# Altium integrated library TI Power Management LDO Controller.IntLib: 89 symbols (part 2 of 3)
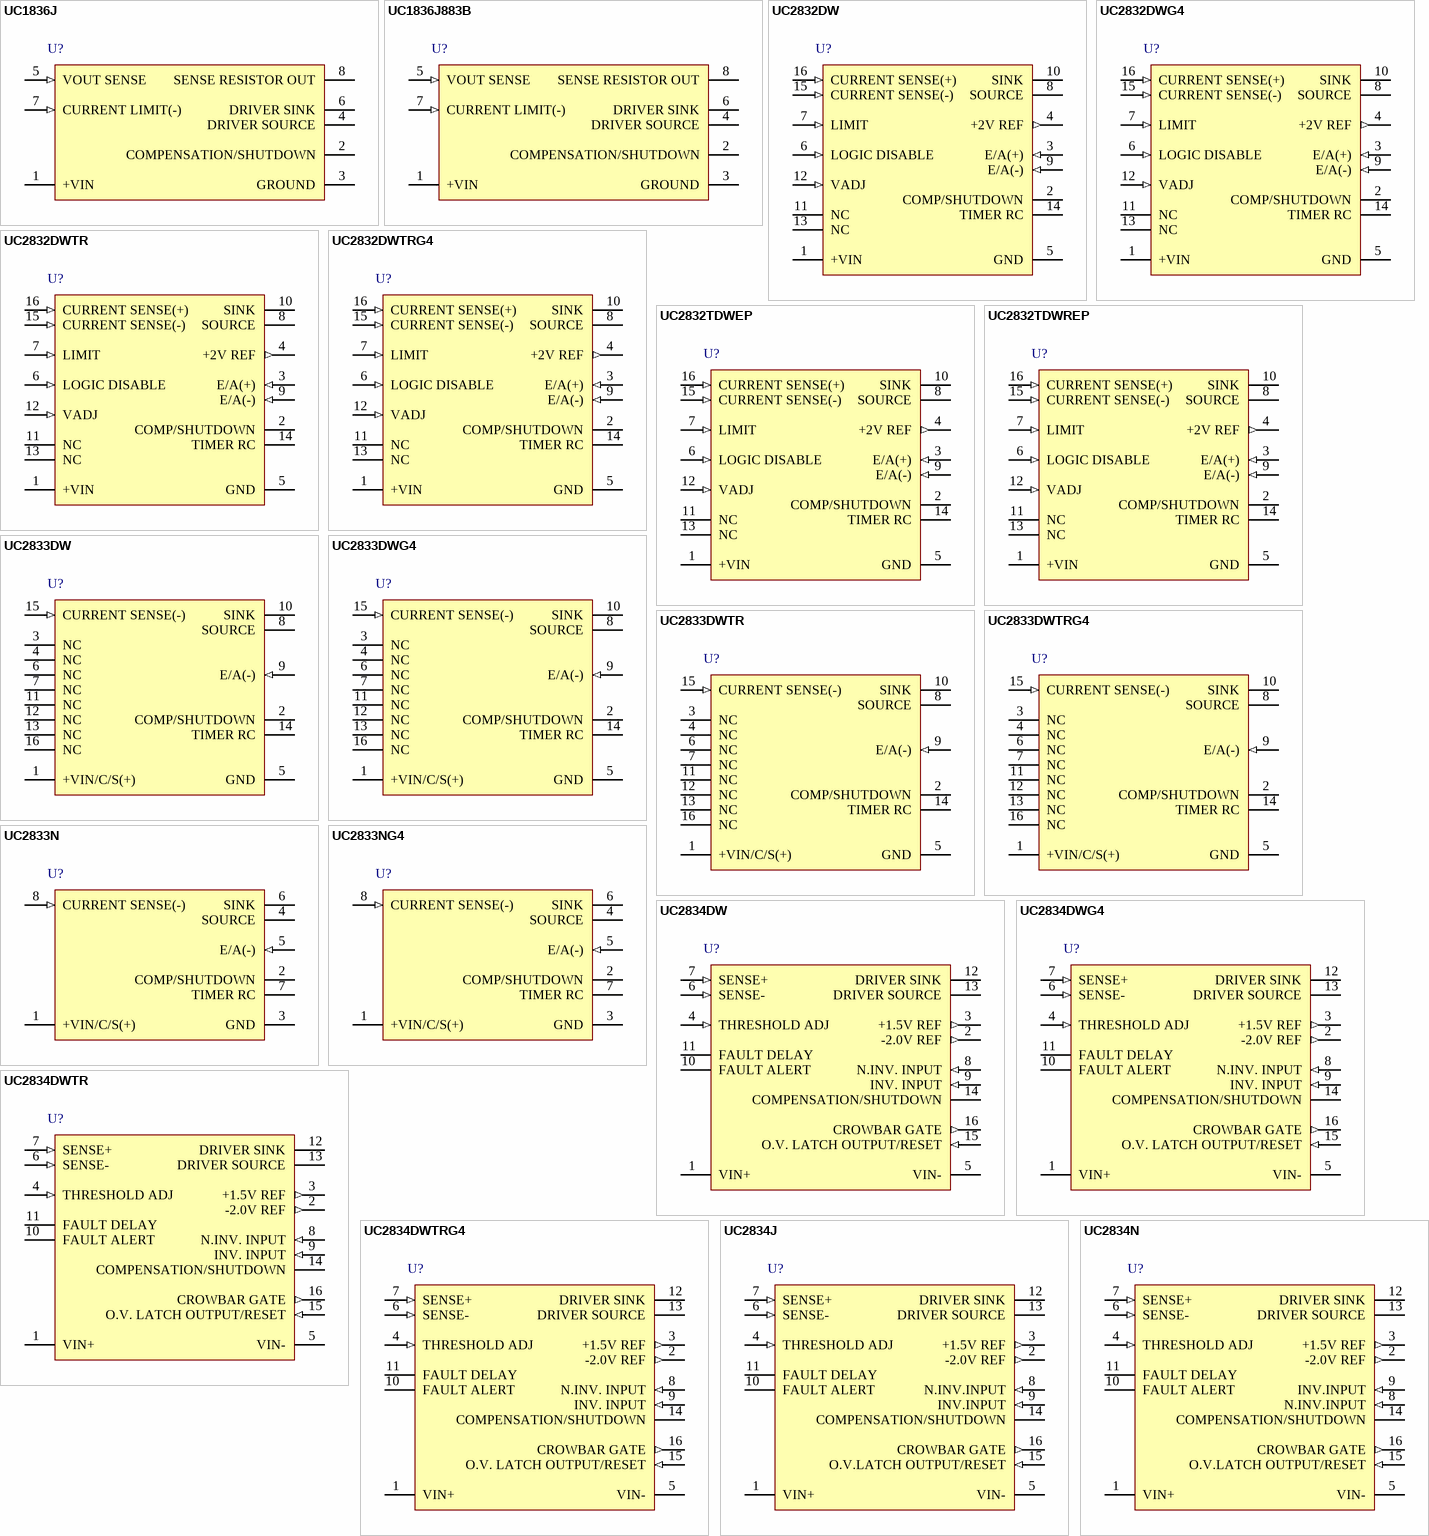
[diagram p5: symbols UC1836J to UC2834N]

## UC2833DWTRG4
designator U?
Precision Low Dropout Linear Controller, 2 % Tolerance, 4.5 to 40 V, -40 to 85 degC, 16-pin SOIC (DW), Green (RoHS & no Sb/Br); PartNumber: UC2833DWTRG4; Manufacturer: Texas Instruments; Fixed Output Options(V): 2; Iq(Typ)(mA): 3.3; SubFamily: LDO Controller; Vin(Max)(V): 40; Vin(Min)(V): 4.5; DatasheetVersion: SLUS387A; PackageVersion: revG, Jan-2011; PackageReference: DW16; PackageDescription: 16-Pin Small Outline Integrated Circuit, 10.3 x 7.5 mm, Pitch 1.27 mm Pitch; Supplier 1: Digi-Key; Supplier Part Number 1: UC2833DWTRG4-ND; Supplier 2: Mouser; Supplier Part Number 2: 595-UC2833DWTRG4; Tolerance(%): 2; Mounting Technology: Surface Mount; Code_JEDEC: MS-013-AA; ComponentLink1Description: Datasheet; ComponentLink1URL: http://www.ti.com/general/docs/lit/getliterature.tsp?genericPartNumber=UC2833&fileType=pdf
footprint DW16_N (SOIC, 16-Leads, Body 10.3x7.5mm, Pitch 1.27mm, IPC Medium Density)
footprint DW16_L (SOIC, 16-Leads, Body 10.3x7.5mm, Pitch 1.27mm, IPC High Density)
footprint DW16_M (SOIC, 16-Leads, Body 10.3x7.5mm, Pitch 1.27mm, IPC Low Density)
pins: 1 +VIN/C/S(+) (power), 2 COMP/SHUTDOWN, 3 NC, 4 NC, 5 GND (power), 6 NC, 7 NC, 8 SOURCE, 9 E/A(-) (in), 10 SINK, 11 NC, 12 NC, 13 NC, 14 TIMER RC, 15 CURRENT SENSE(-) (in), 16 NC

## UC2833N
designator U?
Precision Low Dropout Linear Controller, 2 % Tolerance, 4.5 to 40 V, -40 to 85 degC, 8-pin PDIP (P), Green (RoHS & no Sb/Br); PartNumber: UC2833N; Manufacturer: Texas Instruments; Fixed Output Options(V): 2; Iq(Typ)(mA): 3.3; SubFamily: LDO Controller; Vin(Max)(V): 40; Vin(Min)(V): 4.5; DatasheetVersion: SLUS387A; PackageVersion: revE, Apr-2010; PackageReference: P8; PackageDescription: 8-Pin Plastic Dual-In-Line Package, Row Spacing 7.62 mm, Pitch 2.54 mm; Supplier 1: Digi-Key; Supplier Part Number 1: UC2833N-ND; Supplier 2: Newark; Supplier Part Number 2: 77C2927; Supplier 3: Mouser; Supplier Part Number 3: 595-UC2833N; Tolerance(%): 2; Mounting Technology: Through Hole; Code_JEDEC: MS-001-BA; ComponentLink1Description: Datasheet; ComponentLink1URL: http://www.ti.com/general/docs/lit/getliterature.tsp?genericPartNumber=UC2833&fileType=pdf
footprint P8 (DIP, 8-Leads, Row Spacing 7.62mm, Pitch 2.54mm, Body 9.6x6.4mm)
pins: 1 +VIN/C/S(+) (power), 2 COMP/SHUTDOWN, 3 GND (power), 4 SOURCE, 5 E/A(-) (in), 6 SINK, 7 TIMER RC, 8 CURRENT SENSE(-) (in)

## UC2833NG4
designator U?
Precision Low Dropout Linear Controller, 2 % Tolerance, 4.5 to 40 V, -40 to 85 degC, 8-pin PDIP (P), Green (RoHS & no Sb/Br); PartNumber: UC2833NG4; Manufacturer: Texas Instruments; Fixed Output Options(V): 2; Iq(Typ)(mA): 3.3; SubFamily: LDO Controller; Vin(Max)(V): 40; Vin(Min)(V): 4.5; DatasheetVersion: SLUS387A; PackageVersion: revE, Apr-2010; PackageReference: P8; PackageDescription: 8-Pin Plastic Dual-In-Line Package, Row Spacing 7.62 mm, Pitch 2.54 mm; Supplier 1: Digi-Key; Supplier Part Number 1: UC2833NG4-ND; Supplier 2: Newark; Supplier Part Number 2: 54K2273; Supplier 3: Mouser; Supplier Part Number 3: 595-UC2833NG4; Tolerance(%): 2; Mounting Technology: Through Hole; Code_JEDEC: MS-001-BA; ComponentLink1Description: Datasheet; ComponentLink1URL: http://www.ti.com/general/docs/lit/getliterature.tsp?genericPartNumber=UC2833&fileType=pdf
footprint P8 (DIP, 8-Leads, Row Spacing 7.62mm, Pitch 2.54mm, Body 9.6x6.4mm)
pins: 1 +VIN/C/S(+) (power), 2 COMP/SHUTDOWN, 3 GND (power), 4 SOURCE, 5 E/A(-) (in), 6 SINK, 7 TIMER RC, 8 CURRENT SENSE(-) (in)

## UC2834DW
designator U?
High Efficiency Linear Regulator, 4 % Tolerance, 5 to 35 V, -40 to 85 degC, 16-pin SOIC (DW), Green (RoHS & no Sb/Br); PartNumber: UC2834DW; Manufacturer: Texas Instruments; Fixed Output Options(V): 1.5; Iq(Typ)(mA): 5.5; SubFamily: LDO Controller; Tolerance(%): 4; Vin(Max)(V): 35; Vin(Min)(V): 5; DatasheetVersion: SLUS363; PackageVersion: revG, Jan-2011; PackageReference: DW16; PackageDescription: 16-Pin Small Outline Integrated Circuit, 10.3 x 7.5 mm, Pitch 1.27 mm Pitch; Supplier 1: Digi-Key; Supplier Part Number 1: 296-2797-5-ND; Supplier 2: Farnell; Supplier Part Number 2: 1510214; Supplier 3: Newark; Supplier Part Number 3: 31C7471; Supplier 4: Mouser; Supplier Part Number 4: 595-UC2834DW; Mounting Technology: Surface Mount; Code_JEDEC: MS-013-AA; ComponentLink1Description: Datasheet; ComponentLink1URL: http://www.ti.com/general/docs/lit/getliterature.tsp?genericPartNumber=UC2834&fileType=pdf
footprint DW16_N (SOIC, 16-Leads, Body 10.3x7.5mm, Pitch 1.27mm, IPC Medium Density)
footprint DW16_L (SOIC, 16-Leads, Body 10.3x7.5mm, Pitch 1.27mm, IPC High Density)
footprint DW16_M (SOIC, 16-Leads, Body 10.3x7.5mm, Pitch 1.27mm, IPC Low Density)
pins: 1 VIN+ (power), 2 -2.0V REF (out), 3 +1.5V REF (out), 4 THRESHOLD ADJ (in), 5 VIN- (power), 6 SENSE- (in), 7 SENSE+ (in), 8 N.INV. INPUT (in), 9 INV. INPUT (in), 10 FAULT ALERT (oc), 11 FAULT DELAY, 12 DRIVER SINK, 13 DRIVER SOURCE, 14 COMPENSATION/SHUTDOWN, 15 O.V. LATCH OUTPUT/RESET (in), 16 CROWBAR GATE (out)

## UC2834DWG4
designator U?
High Efficiency Linear Regulator, 4 % Tolerance, 5 to 35 V, -40 to 85 degC, 16-pin SOIC (DW), Green (RoHS & no Sb/Br); PartNumber: UC2834DWG4; Manufacturer: Texas Instruments; Fixed Output Options(V): 1.5; Iq(Typ)(mA): 5.5; SubFamily: LDO Controller; Tolerance(%): 4; Vin(Max)(V): 35; Vin(Min)(V): 5; DatasheetVersion: SLUS363; PackageVersion: revG, Jan-2011; PackageReference: DW16; PackageDescription: 16-Pin Small Outline Integrated Circuit, 10.3 x 7.5 mm, Pitch 1.27 mm Pitch; Supplier 1: Digi-Key; Supplier Part Number 1: UC2834DWG4-ND; Supplier 2: Mouser; Supplier Part Number 2: 595-UC2834DWG4; Mounting Technology: Surface Mount; Code_JEDEC: MS-013-AA; ComponentLink1Description: Datasheet; ComponentLink1URL: http://www.ti.com/general/docs/lit/getliterature.tsp?genericPartNumber=UC2834&fileType=pdf
footprint DW16_N (SOIC, 16-Leads, Body 10.3x7.5mm, Pitch 1.27mm, IPC Medium Density)
footprint DW16_L (SOIC, 16-Leads, Body 10.3x7.5mm, Pitch 1.27mm, IPC High Density)
footprint DW16_M (SOIC, 16-Leads, Body 10.3x7.5mm, Pitch 1.27mm, IPC Low Density)
pins: 1 VIN+ (power), 2 -2.0V REF (out), 3 +1.5V REF (out), 4 THRESHOLD ADJ (in), 5 VIN- (power), 6 SENSE- (in), 7 SENSE+ (in), 8 N.INV. INPUT (in), 9 INV. INPUT (in), 10 FAULT ALERT (oc), 11 FAULT DELAY, 12 DRIVER SINK, 13 DRIVER SOURCE, 14 COMPENSATION/SHUTDOWN, 15 O.V. LATCH OUTPUT/RESET (in), 16 CROWBAR GATE (out)

## UC2834DWTR
designator U?
High Efficiency Linear Regulator, 4 % Tolerance, 5 to 35 V, -40 to 85 degC, 16-pin SOIC (DW), Green (RoHS & no Sb/Br); PartNumber: UC2834DWTR; Manufacturer: Texas Instruments; Fixed Output Options(V): 1.5; Iq(Typ)(mA): 5.5; SubFamily: LDO Controller; Tolerance(%): 4; Vin(Max)(V): 35; Vin(Min)(V): 5; DatasheetVersion: SLUS363; PackageVersion: revG, Jan-2011; PackageReference: DW16; PackageDescription: 16-Pin Small Outline Integrated Circuit, 10.3 x 7.5 mm, Pitch 1.27 mm Pitch; Supplier 1: Digi-Key; Supplier Part Number 1: UC2834DWTR-ND; Supplier 2: Mouser; Supplier Part Number 2: 595-UC2834DWTR; Mounting Technology: Surface Mount; Code_JEDEC: MS-013-AA; ComponentLink1Description: Datasheet; ComponentLink1URL: http://www.ti.com/general/docs/lit/getliterature.tsp?genericPartNumber=UC2834&fileType=pdf
footprint DW16_N (SOIC, 16-Leads, Body 10.3x7.5mm, Pitch 1.27mm, IPC Medium Density)
footprint DW16_L (SOIC, 16-Leads, Body 10.3x7.5mm, Pitch 1.27mm, IPC High Density)
footprint DW16_M (SOIC, 16-Leads, Body 10.3x7.5mm, Pitch 1.27mm, IPC Low Density)
pins: 1 VIN+ (power), 2 -2.0V REF (out), 3 +1.5V REF (out), 4 THRESHOLD ADJ (in), 5 VIN- (power), 6 SENSE- (in), 7 SENSE+ (in), 8 N.INV. INPUT (in), 9 INV. INPUT (in), 10 FAULT ALERT (oc), 11 FAULT DELAY, 12 DRIVER SINK, 13 DRIVER SOURCE, 14 COMPENSATION/SHUTDOWN, 15 O.V. LATCH OUTPUT/RESET (in), 16 CROWBAR GATE (out)

## UC2834DWTRG4
designator U?
High Efficiency Linear Regulator, 4 % Tolerance, 5 to 35 V, -40 to 85 degC, 16-pin SOIC (DW), Green (RoHS & no Sb/Br); PartNumber: UC2834DWTRG4; Manufacturer: Texas Instruments; Fixed Output Options(V): 1.5; Iq(Typ)(mA): 5.5; SubFamily: LDO Controller; Tolerance(%): 4; Vin(Max)(V): 35; Vin(Min)(V): 5; DatasheetVersion: SLUS363; PackageVersion: revG, Jan-2011; PackageReference: DW16; PackageDescription: 16-Pin Small Outline Integrated Circuit, 10.3 x 7.5 mm, Pitch 1.27 mm Pitch; Supplier 1: Digi-Key; Supplier Part Number 1: UC2834DWTRG4-ND; Supplier 2: Mouser; Supplier Part Number 2: 595-UC2834DWTRG4; Mounting Technology: Surface Mount; Code_JEDEC: MS-013-AA; ComponentLink1Description: Datasheet; ComponentLink1URL: http://www.ti.com/general/docs/lit/getliterature.tsp?genericPartNumber=UC2834&fileType=pdf
footprint DW16_N (SOIC, 16-Leads, Body 10.3x7.5mm, Pitch 1.27mm, IPC Medium Density)
footprint DW16_L (SOIC, 16-Leads, Body 10.3x7.5mm, Pitch 1.27mm, IPC High Density)
footprint DW16_M (SOIC, 16-Leads, Body 10.3x7.5mm, Pitch 1.27mm, IPC Low Density)
pins: 1 VIN+ (power), 2 -2.0V REF (out), 3 +1.5V REF (out), 4 THRESHOLD ADJ (in), 5 VIN- (power), 6 SENSE- (in), 7 SENSE+ (in), 8 N.INV. INPUT (in), 9 INV. INPUT (in), 10 FAULT ALERT (oc), 11 FAULT DELAY, 12 DRIVER SINK, 13 DRIVER SOURCE, 14 COMPENSATION/SHUTDOWN, 15 O.V. LATCH OUTPUT/RESET (in), 16 CROWBAR GATE (out)

## UC2834J
designator U?
High Efficiency Linear Regulator, 4 % Tolerance, 5 to 35 V, -40 to 85 degC, 16-pin CDIP (J); PartNumber: UC2834J; Manufacturer: Texas Instruments; Fixed Output Options(V): 1.5; Iq(Typ)(mA): 5.5; SubFamily: LDO Controller; Tolerance(%): 4; Vin(Max)(V): 35; Vin(Min)(V): 5; DatasheetVersion: SLUS363; PackageVersion: revF, Mar-2003; PackageReference: J16; PackageDescription: 16-Pin, Ceramic Dual In-Line Package, Row Spacing 7.62 mm, Pitch 2.54 mm; Mounting Technology: Through Hole; ComponentLink1Description: Datasheet; ComponentLink1URL: http://www.ti.com/general/docs/lit/getliterature.tsp?genericPartNumber=UC2834M&fileType=pdf
footprint J16 (DIP, 16-Leads, Row Spacing 7.62mm, Pitch 2.54mm, Body 21.3x6.9mm)
pins: 1 VIN+ (power), 2 -2.0V REF (out), 3 +1.5V REF (out), 4 THRESHOLD ADJ (in), 5 VIN- (power), 6 SENSE- (in), 7 SENSE+ (in), 8 N.INV.INPUT (in), 9 INV.INPUT (in), 10 FAULT ALERT (oc), 11 FAULT DELAY, 12 DRIVER SINK, 13 DRIVER SOURCE, 14 COMPENSATION/SHUTDOWN, 15 O.V.LATCH OUTPUT/RESET (in), 16 CROWBAR GATE (out)

## UC2834N
designator U?
High Efficiency Linear Regulator, 4 % Tolerance, 5 to 35 V, -40 to 85 degC, 16-pin PDIP (N), Green (RoHS & no Sb/Br); PartNumber: UC2834N; Manufacturer: Texas Instruments; Fixed Output Options(V): 1.5; Iq(Typ)(mA): 5.5; SubFamily: LDO Controller; Tolerance(%): 4; Vin(Max)(V): 35; Vin(Min)(V): 5; DatasheetVersion: SLUS363; PackageVersion: revE, Dec-2002; PackageReference: N16; PackageDescription: 16-Pin Plastic Dual-In-Line Package, Row Spacing 7.62 mm, Pitch 2.54 mm; Supplier 1: Digi-Key; Supplier Part Number 1: 296-11172-5-ND; Supplier 2: Newark; Supplier Part Number 2: 77C2929; Supplier 3: Mouser; Supplier Part Number 3: 595-UC2834N; Mounting Technology: Through Hole; Code_JEDEC: MS-001*; ComponentLink1Description: Datasheet; ComponentLink1URL: http://www.ti.com/general/docs/lit/getliterature.tsp?genericPartNumber=UC2834&fileType=pdf
footprint N16 (DIP, 16-Leads, Row Spacing 7.62mm, Pitch 2.54mm, Body 19.3x6.4mm)
pins: 1 VIN+ (power), 2 -2.0V REF (out), 3 +1.5V REF (out), 4 THRESHOLD ADJ (in), 5 VIN- (power), 6 SENSE- (in), 7 SENSE+ (in), 8 N.INV.INPUT (in), 9 INV.INPUT (in), 10 FAULT ALERT (oc), 11 FAULT DELAY, 12 DRIVER SINK, 13 DRIVER SOURCE, 14 COMPENSATION/SHUTDOWN, 15 O.V.LATCH OUTPUT/RESET (in), 16 CROWBAR GATE (out)

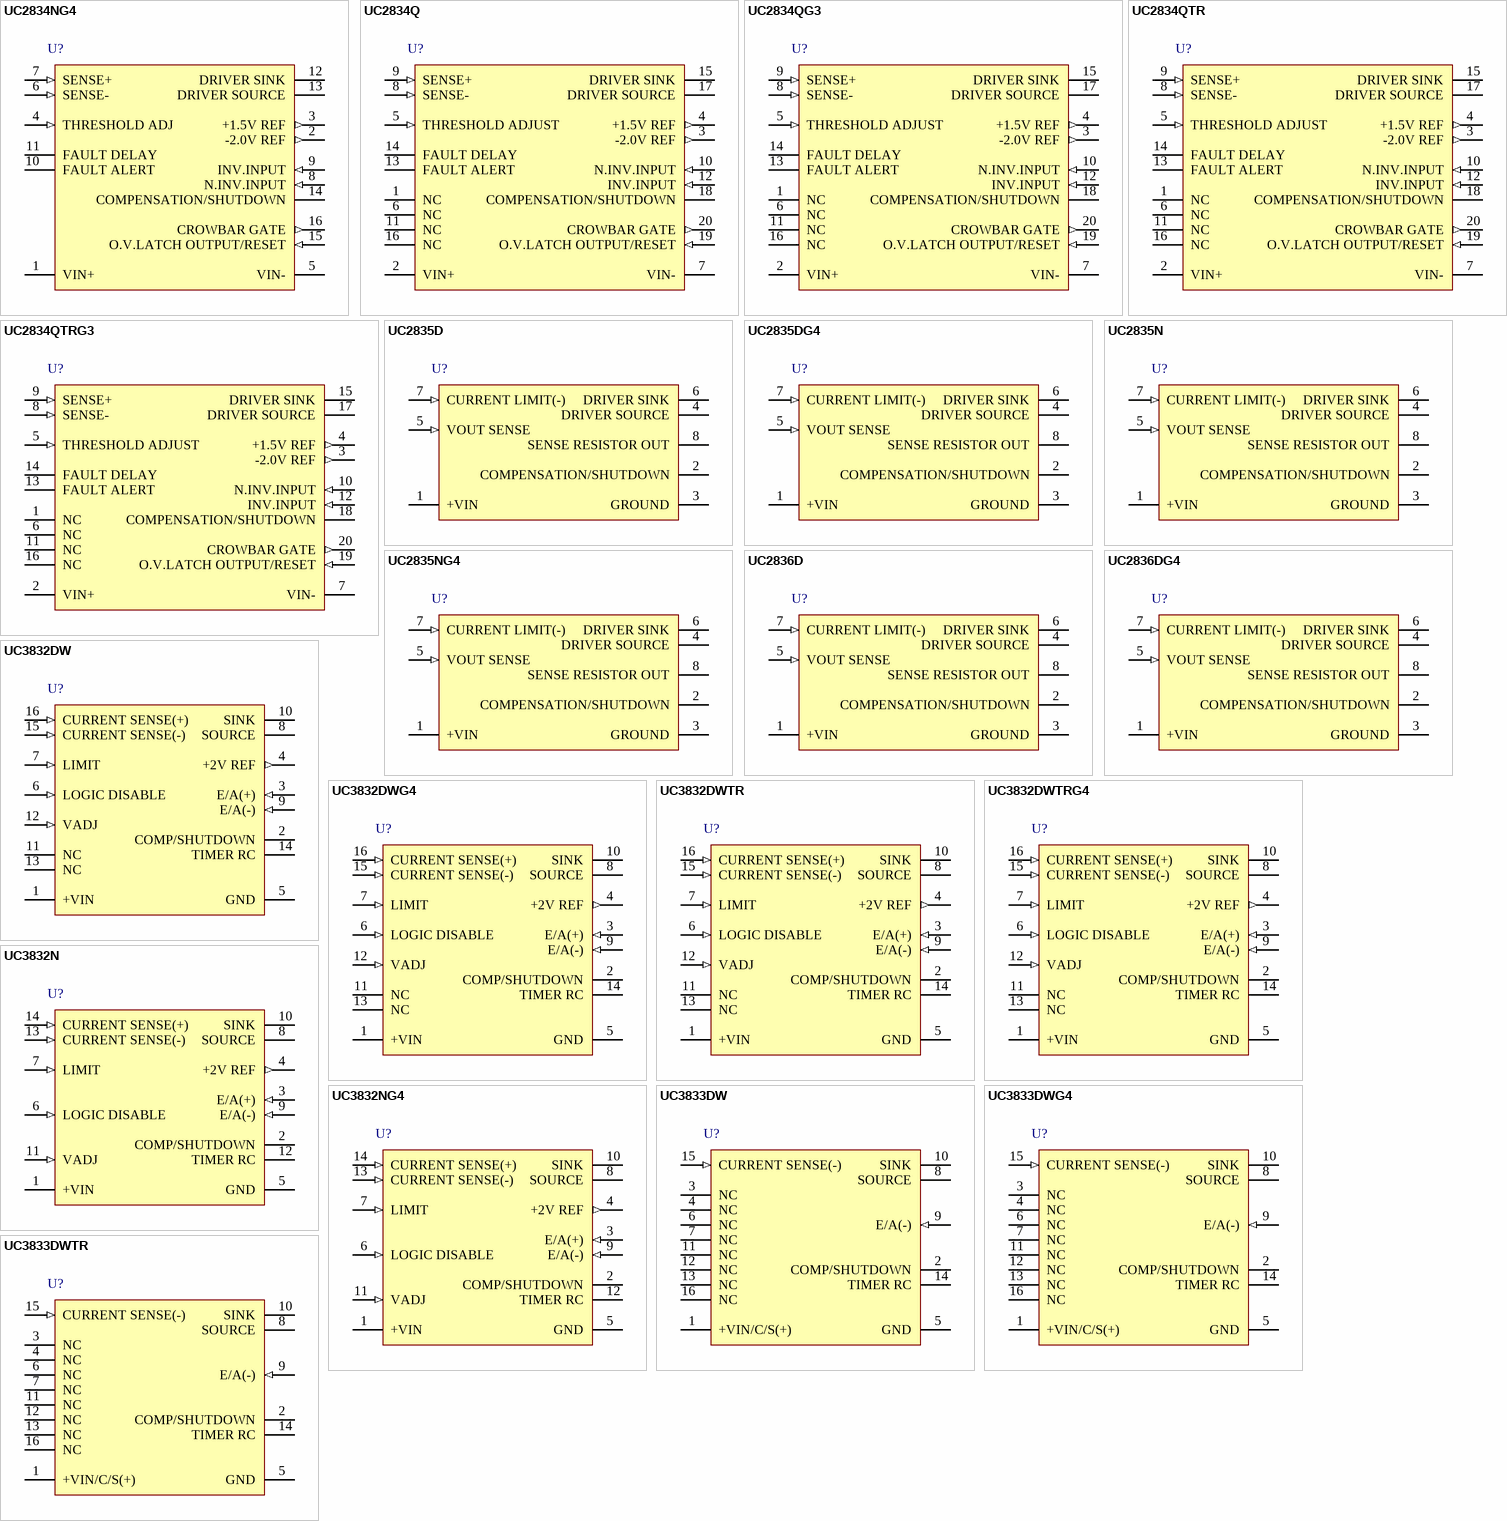
[diagram p2: symbols UC2834NG4 to UC3833DWTR]

## UC2834NG4
designator U?
High Efficiency Linear Regulator, 4 % Tolerance, 5 to 35 V, -40 to 85 degC, 16-pin PDIP (N), Green (RoHS & no Sb/Br); PartNumber: UC2834NG4; Manufacturer: Texas Instruments; Fixed Output Options(V): 1.5; Iq(Typ)(mA): 5.5; SubFamily: LDO Controller; Tolerance(%): 4; Vin(Max)(V): 35; Vin(Min)(V): 5; DatasheetVersion: SLUS363; PackageVersion: revE, Dec-2002; PackageReference: N16; PackageDescription: 16-Pin Plastic Dual-In-Line Package, Row Spacing 7.62 mm, Pitch 2.54 mm; Supplier 1: Digi-Key; Supplier Part Number 1: UC2834NG4-ND; Supplier 2: Mouser; Supplier Part Number 2: 595-UC2834NG4; Mounting Technology: Through Hole; Code_JEDEC: MS-001*; ComponentLink1Description: Datasheet; ComponentLink1URL: http://www.ti.com/general/docs/lit/getliterature.tsp?genericPartNumber=UC2834&fileType=pdf
footprint N16 (DIP, 16-Leads, Row Spacing 7.62mm, Pitch 2.54mm, Body 19.3x6.4mm)
pins: 1 VIN+ (power), 2 -2.0V REF (out), 3 +1.5V REF (out), 4 THRESHOLD ADJ (in), 5 VIN- (power), 6 SENSE- (in), 7 SENSE+ (in), 8 N.INV.INPUT (in), 9 INV.INPUT (in), 10 FAULT ALERT (oc), 11 FAULT DELAY, 12 DRIVER SINK, 13 DRIVER SOURCE, 14 COMPENSATION/SHUTDOWN, 15 O.V.LATCH OUTPUT/RESET (in), 16 CROWBAR GATE (out)

## UC2834Q
designator U?
High Efficiency Linear Regulator, 4 % Tolerance, 5 to 35 V, -40 to 85 degC, 20-pin PLCC (FN), Green (RoHS & no Sb/Br); PartNumber: UC2834Q; Manufacturer: Texas Instruments; Fixed Output Options(V): 1.5; Iq(Typ)(mA): 5.5; SubFamily: LDO Controller; Tolerance(%): 4; Vin(Max)(V): 35; Vin(Min)(V): 5; DatasheetVersion: SLUS363; PackageVersion: revB, Mar-1995; PackageReference: FN20; PackageDescription: 20-Pin Plastic Leaded Chip Carrier, 1.27 mm Pitch; Supplier 1: Digi-Key; Supplier Part Number 1: UC2834Q-ND; Supplier 2: Newark; Supplier Part Number 2: 25C3465; Supplier 3: Mouser; Supplier Part Number 3: 595-UC2834Q; Mounting Technology: Surface Mount; Code_JEDEC: MS-018; ComponentLink1Description: Datasheet; ComponentLink1URL: http://www.ti.com/general/docs/lit/getliterature.tsp?genericPartNumber=UC2834&fileType=pdf
footprint FN20_N (Leaded Chip Carrier, 20-Leads, Body 9x9mm, Pitch 1.27mm, IPC Medium Density)
footprint FN20_L (Leaded Chip Carrier, 20-Leads, Body 9x9mm, Pitch 1.27mm, IPC High Density)
footprint FN20_M (Leaded Chip Carrier, 20-Leads, Body 9x9mm, Pitch 1.27mm, IPC Low Density)
pins: 1 NC, 2 VIN+ (power), 3 -2.0V REF (out), 4 +1.5V REF (out), 5 THRESHOLD ADJUST (in), 6 NC, 7 VIN- (power), 8 SENSE- (in), 9 SENSE+ (in), 10 N.INV.INPUT (in), 11 NC, 12 INV.INPUT (in), 13 FAULT ALERT (oc), 14 FAULT DELAY, 15 DRIVER SINK, 16 NC, 17 DRIVER SOURCE, 18 COMPENSATION/SHUTDOWN, 19 O.V.LATCH OUTPUT/RESET (in), 20 CROWBAR GATE (out)

## UC2834QG3
designator U?
High Efficiency Linear Regulator, 4 % Tolerance, 5 to 35 V, -40 to 85 degC, 20-pin PLCC (FN), Green (RoHS & no Sb/Br); PartNumber: UC2834QG3; Manufacturer: Texas Instruments; Fixed Output Options(V): 1.5; Iq(Typ)(mA): 5.5; SubFamily: LDO Controller; Tolerance(%): 4; Vin(Max)(V): 35; Vin(Min)(V): 5; DatasheetVersion: SLUS363; PackageVersion: revB, Mar-1995; PackageReference: FN20; PackageDescription: 20-Pin Plastic Leaded Chip Carrier, 1.27 mm Pitch; Supplier 1: Digi-Key; Supplier Part Number 1: UC2834QG3-ND; Supplier 2: Newark; Supplier Part Number 2: 20M5943; Supplier 3: Mouser; Supplier Part Number 3: 595-UC2834QG3; Mounting Technology: Surface Mount; Code_JEDEC: MS-018; ComponentLink1Description: Datasheet; ComponentLink1URL: http://www.ti.com/general/docs/lit/getliterature.tsp?genericPartNumber=UC2834&fileType=pdf
footprint FN20_N (Leaded Chip Carrier, 20-Leads, Body 9x9mm, Pitch 1.27mm, IPC Medium Density)
footprint FN20_L (Leaded Chip Carrier, 20-Leads, Body 9x9mm, Pitch 1.27mm, IPC High Density)
footprint FN20_M (Leaded Chip Carrier, 20-Leads, Body 9x9mm, Pitch 1.27mm, IPC Low Density)
pins: 1 NC, 2 VIN+ (power), 3 -2.0V REF (out), 4 +1.5V REF (out), 5 THRESHOLD ADJUST (in), 6 NC, 7 VIN- (power), 8 SENSE- (in), 9 SENSE+ (in), 10 N.INV.INPUT (in), 11 NC, 12 INV.INPUT (in), 13 FAULT ALERT (oc), 14 FAULT DELAY, 15 DRIVER SINK, 16 NC, 17 DRIVER SOURCE, 18 COMPENSATION/SHUTDOWN, 19 O.V.LATCH OUTPUT/RESET (in), 20 CROWBAR GATE (out)

## UC2834QTR
designator U?
High Efficiency Linear Regulator, 4 % Tolerance, 5 to 35 V, -40 to 85 degC, 20-pin PLCC (FN), Green (RoHS & no Sb/Br); PartNumber: UC2834QTR; Manufacturer: Texas Instruments; Fixed Output Options(V): 1.5; Iq(Typ)(mA): 5.5; SubFamily: LDO Controller; Tolerance(%): 4; Vin(Max)(V): 35; Vin(Min)(V): 5; DatasheetVersion: SLUS363; PackageVersion: revB, Mar-1995; PackageReference: FN20; PackageDescription: 20-Pin Plastic Leaded Chip Carrier, 1.27 mm Pitch; Supplier 1: Digi-Key; Supplier Part Number 1: UC2834QTR-ND; Supplier 2: Newark; Supplier Part Number 2: 77C2930; Supplier 3: Mouser; Supplier Part Number 3: 595-UC2834QTR; Mounting Technology: Surface Mount; Code_JEDEC: MS-018; ComponentLink1Description: Datasheet; ComponentLink1URL: http://www.ti.com/general/docs/lit/getliterature.tsp?genericPartNumber=UC2834&fileType=pdf
footprint FN20_N (Leaded Chip Carrier, 20-Leads, Body 9x9mm, Pitch 1.27mm, IPC Medium Density)
footprint FN20_L (Leaded Chip Carrier, 20-Leads, Body 9x9mm, Pitch 1.27mm, IPC High Density)
footprint FN20_M (Leaded Chip Carrier, 20-Leads, Body 9x9mm, Pitch 1.27mm, IPC Low Density)
pins: 1 NC, 2 VIN+ (power), 3 -2.0V REF (out), 4 +1.5V REF (out), 5 THRESHOLD ADJUST (in), 6 NC, 7 VIN- (power), 8 SENSE- (in), 9 SENSE+ (in), 10 N.INV.INPUT (in), 11 NC, 12 INV.INPUT (in), 13 FAULT ALERT (oc), 14 FAULT DELAY, 15 DRIVER SINK, 16 NC, 17 DRIVER SOURCE, 18 COMPENSATION/SHUTDOWN, 19 O.V.LATCH OUTPUT/RESET (in), 20 CROWBAR GATE (out)

## UC2834QTRG3
designator U?
High Efficiency Linear Regulator, 4 % Tolerance, 5 to 35 V, -40 to 85 degC, 20-pin PLCC (FN), Green (RoHS & no Sb/Br); PartNumber: UC2834QTRG3; Manufacturer: Texas Instruments; Fixed Output Options(V): 1.5; Iq(Typ)(mA): 5.5; SubFamily: LDO Controller; Tolerance(%): 4; Vin(Max)(V): 35; Vin(Min)(V): 5; DatasheetVersion: SLUS363; PackageVersion: revB, Mar-1995; PackageReference: FN20; PackageDescription: 20-Pin Plastic Leaded Chip Carrier, 1.27 mm Pitch; Supplier 1: Digi-Key; Supplier Part Number 1: UC2834QTRG3-ND; Supplier 2: Newark; Supplier Part Number 2: 20M5944; Supplier 3: Mouser; Supplier Part Number 3: 595-UC2834QTRG3; Mounting Technology: Surface Mount; Code_JEDEC: MS-018; ComponentLink1Description: Datasheet; ComponentLink1URL: http://www.ti.com/general/docs/lit/getliterature.tsp?genericPartNumber=UC2834&fileType=pdf
footprint FN20_N (Leaded Chip Carrier, 20-Leads, Body 9x9mm, Pitch 1.27mm, IPC Medium Density)
footprint FN20_L (Leaded Chip Carrier, 20-Leads, Body 9x9mm, Pitch 1.27mm, IPC High Density)
footprint FN20_M (Leaded Chip Carrier, 20-Leads, Body 9x9mm, Pitch 1.27mm, IPC Low Density)
pins: 1 NC, 2 VIN+ (power), 3 -2.0V REF (out), 4 +1.5V REF (out), 5 THRESHOLD ADJUST (in), 6 NC, 7 VIN- (power), 8 SENSE- (in), 9 SENSE+ (in), 10 N.INV.INPUT (in), 11 NC, 12 INV.INPUT (in), 13 FAULT ALERT (oc), 14 FAULT DELAY, 15 DRIVER SINK, 16 NC, 17 DRIVER SOURCE, 18 COMPENSATION/SHUTDOWN, 19 O.V.LATCH OUTPUT/RESET (in), 20 CROWBAR GATE (out)

## UC2835D
designator U?
High Efficiency Regulator Controller, 2 % Tolerance, 6 to 40 V, -25 to 85 degC, 8-pin SOIC (D), Green (RoHS & no Sb/Br); PartNumber: UC2835D; Manufacturer: Texas Instruments; Fixed Output Options(V): 5; Iq(Typ)(mA): 3.7; SubFamily: LDO Controller; Tolerance(%): 2; Vin(Max)(V): 40; Vin(Min)(V): 6; DatasheetVersion: SLUS383; PackageVersion: revM, Jun-2011; PackageReference: D8; PackageDescription: 8-Pin Plastic Small Outline Integrated Circuit, 4.9 x 3.9 mm, Pitch 1.27 mm Pitch; Supplier 1: Digi-Key; Supplier Part Number 1: 296-2798-5-ND; Supplier 2: Newark; Supplier Part Number 2: 77C2931; Supplier 3: Mouser; Supplier Part Number 3: 595-UC2835D; Mounting Technology: Surface Mount; Code_JEDEC: MS-012AA; ComponentLink1Description: Datasheet; ComponentLink1URL: http://www.ti.com/general/docs/lit/getliterature.tsp?genericPartNumber=UC2835&fileType=pdf
footprint D8_N (SOIC, 8-Leads, Body 4.9x3.9mm, Pitch 1.27mm, IPC Medium Density)
footprint D8_L (SOIC, 8-Leads, Body 4.9x3.9mm, Pitch 1.27mm, IPC High Density)
footprint D8_M (SOIC, 8-Leads, Body 4.9x3.9mm, Pitch 1.27mm, IPC Low Density)
pins: 1 +VIN (power), 2 COMPENSATION/SHUTDOWN, 3 GROUND (power), 4 DRIVER SOURCE, 5 VOUT SENSE (in), 6 DRIVER SINK, 7 CURRENT LIMIT(-) (in), 8 SENSE RESISTOR OUT

## UC2835DG4
designator U?
High Efficiency Regulator Controller, 2 % Tolerance, 6 to 40 V, -25 to 85 degC, 8-pin SOIC (D), Green (RoHS & no Sb/Br); PartNumber: UC2835DG4; Manufacturer: Texas Instruments; Fixed Output Options(V): 5; Iq(Typ)(mA): 3.7; SubFamily: LDO Controller; Tolerance(%): 2; Vin(Max)(V): 40; Vin(Min)(V): 6; DatasheetVersion: SLUS383; PackageVersion: revM, Jun-2011; PackageReference: D8; PackageDescription: 8-Pin Plastic Small Outline Integrated Circuit, 4.9 x 3.9 mm, Pitch 1.27 mm Pitch; Supplier 1: Digi-Key; Supplier Part Number 1: UC2835DG4-ND; Supplier 2: Newark; Supplier Part Number 2: 41M6419; Supplier 3: Mouser; Supplier Part Number 3: 595-UC2835DG4; Mounting Technology: Surface Mount; Code_JEDEC: MS-012AA; ComponentLink1Description: Datasheet; ComponentLink1URL: http://www.ti.com/general/docs/lit/getliterature.tsp?genericPartNumber=UC2835&fileType=pdf
footprint D8_N (SOIC, 8-Leads, Body 4.9x3.9mm, Pitch 1.27mm, IPC Medium Density)
footprint D8_L (SOIC, 8-Leads, Body 4.9x3.9mm, Pitch 1.27mm, IPC High Density)
footprint D8_M (SOIC, 8-Leads, Body 4.9x3.9mm, Pitch 1.27mm, IPC Low Density)
pins: 1 +VIN (power), 2 COMPENSATION/SHUTDOWN, 3 GROUND (power), 4 DRIVER SOURCE, 5 VOUT SENSE (in), 6 DRIVER SINK, 7 CURRENT LIMIT(-) (in), 8 SENSE RESISTOR OUT

## UC2835N
designator U?
High Efficiency Regulator Controller, 2 % Tolerance, 6 to 40 V, -25 to 85 degC, 8-pin PDIP (P), Green (RoHS & no Sb/Br); PartNumber: UC2835N; Manufacturer: Texas Instruments; Fixed Output Options(V): 5; Iq(Typ)(mA): 3.7; SubFamily: LDO Controller; Tolerance(%): 2; Vin(Max)(V): 40; Vin(Min)(V): 6; DatasheetVersion: SLUS383; PackageVersion: revE, Apr-2010; PackageReference: P8; PackageDescription: 8-Pin Plastic Dual-In-Line Package, Row Spacing 7.62 mm, Pitch 2.54 mm; Supplier 1: Digi-Key; Supplier Part Number 1: UC2835N-ND; Supplier 2: Newark; Supplier Part Number 2: 77C2932; Supplier 3: Mouser; Supplier Part Number 3: 595-UC2835N; Mounting Technology: Through Hole; Code_JEDEC: MS-001-BA; ComponentLink1Description: Datasheet; ComponentLink1URL: http://www.ti.com/general/docs/lit/getliterature.tsp?genericPartNumber=UC2835&fileType=pdf
footprint P8 (DIP, 8-Leads, Row Spacing 7.62mm, Pitch 2.54mm, Body 9.6x6.4mm)
pins: 1 +VIN (power), 2 COMPENSATION/SHUTDOWN, 3 GROUND (power), 4 DRIVER SOURCE, 5 VOUT SENSE (in), 6 DRIVER SINK, 7 CURRENT LIMIT(-) (in), 8 SENSE RESISTOR OUT

## UC2835NG4
designator U?
High Efficiency Regulator Controller, 2 % Tolerance, 6 to 40 V, -25 to 85 degC, 8-pin PDIP (P), Green (RoHS & no Sb/Br); PartNumber: UC2835NG4; Manufacturer: Texas Instruments; Fixed Output Options(V): 5; Iq(Typ)(mA): 3.7; SubFamily: LDO Controller; Tolerance(%): 2; Vin(Max)(V): 40; Vin(Min)(V): 6; DatasheetVersion: SLUS383; PackageVersion: revE, Apr-2010; PackageReference: P8; PackageDescription: 8-Pin Plastic Dual-In-Line Package, Row Spacing 7.62 mm, Pitch 2.54 mm; Supplier 1: Digi-Key; Supplier Part Number 1: UC2835NG4-ND; Supplier 2: Newark; Supplier Part Number 2: 02M4378; Supplier 3: Mouser; Supplier Part Number 3: 595-UC2835NG4; Mounting Technology: Through Hole; Code_JEDEC: MS-001-BA; ComponentLink1Description: Datasheet; ComponentLink1URL: http://www.ti.com/general/docs/lit/getliterature.tsp?genericPartNumber=UC2835&fileType=pdf
footprint P8 (DIP, 8-Leads, Row Spacing 7.62mm, Pitch 2.54mm, Body 9.6x6.4mm)
pins: 1 +VIN (power), 2 COMPENSATION/SHUTDOWN, 3 GROUND (power), 4 DRIVER SOURCE, 5 VOUT SENSE (in), 6 DRIVER SINK, 7 CURRENT LIMIT(-) (in), 8 SENSE RESISTOR OUT

## UC2836D
designator U?
High Efficiency Regulator Controller, 2 % Tolerance, 6 to 40 V, -25 to 85 degC, 8-pin SOIC (D), Green (RoHS & no Sb/Br); PartNumber: UC2836D; Manufacturer: Texas Instruments; Iq(Typ)(mA): 3.7; SubFamily: LDO Controller; Tolerance(%): 2; Vin(Max)(V): 40; Vin(Min)(V): 6; Vout Adj(Max)(V): 35; Vout Adj(Min)(V): 2.5; DatasheetVersion: SLUS383; PackageVersion: revM, Jun-2011; PackageReference: D8; PackageDescription: 8-Pin Plastic Small Outline Integrated Circuit, 4.9 x 3.9 mm, Pitch 1.27 mm Pitch; Supplier 1: Digi-Key; Supplier Part Number 1: 296-2799-5-ND; Supplier 2: Newark; Supplier Part Number 2: 77C2933; Supplier 3: Mouser; Supplier Part Number 3: 595-UC2836D; Mounting Technology: Surface Mount; Code_JEDEC: MS-012AA; ComponentLink1Description: Datasheet; ComponentLink1URL: http://www.ti.com/general/docs/lit/getliterature.tsp?genericPartNumber=UC2836&fileType=pdf
footprint D8_N (SOIC, 8-Leads, Body 4.9x3.9mm, Pitch 1.27mm, IPC Medium Density)
footprint D8_L (SOIC, 8-Leads, Body 4.9x3.9mm, Pitch 1.27mm, IPC High Density)
footprint D8_M (SOIC, 8-Leads, Body 4.9x3.9mm, Pitch 1.27mm, IPC Low Density)
pins: 1 +VIN (power), 2 COMPENSATION/SHUTDOWN, 3 GROUND (power), 4 DRIVER SOURCE, 5 VOUT SENSE (in), 6 DRIVER SINK, 7 CURRENT LIMIT(-) (in), 8 SENSE RESISTOR OUT

## UC2836DG4
designator U?
High Efficiency Regulator Controller, 2 % Tolerance, 6 to 40 V, -25 to 85 degC, 8-pin SOIC (D), Green (RoHS & no Sb/Br); PartNumber: UC2836DG4; Manufacturer: Texas Instruments; Iq(Typ)(mA): 3.7; SubFamily: LDO Controller; Tolerance(%): 2; Vin(Max)(V): 40; Vin(Min)(V): 6; Vout Adj(Max)(V): 35; Vout Adj(Min)(V): 2.5; DatasheetVersion: SLUS383; PackageVersion: revM, Jun-2011; PackageReference: D8; PackageDescription: 8-Pin Plastic Small Outline Integrated Circuit, 4.9 x 3.9 mm, Pitch 1.27 mm Pitch; Supplier 1: Digi-Key; Supplier Part Number 1: UC2836DG4-ND; Supplier 2: Newark; Supplier Part Number 2: 28M7872; Supplier 3: Mouser; Supplier Part Number 3: 595-UC2836DG4; Mounting Technology: Surface Mount; Code_JEDEC: MS-012AA; ComponentLink1Description: Datasheet; ComponentLink1URL: http://www.ti.com/general/docs/lit/getliterature.tsp?genericPartNumber=UC2836&fileType=pdf
footprint D8_N (SOIC, 8-Leads, Body 4.9x3.9mm, Pitch 1.27mm, IPC Medium Density)
footprint D8_L (SOIC, 8-Leads, Body 4.9x3.9mm, Pitch 1.27mm, IPC High Density)
footprint D8_M (SOIC, 8-Leads, Body 4.9x3.9mm, Pitch 1.27mm, IPC Low Density)
pins: 1 +VIN (power), 2 COMPENSATION/SHUTDOWN, 3 GROUND (power), 4 DRIVER SOURCE, 5 VOUT SENSE (in), 6 DRIVER SINK, 7 CURRENT LIMIT(-) (in), 8 SENSE RESISTOR OUT

## UC3832DW
designator U?
Precision Low Dropout Linear Controller, 2 % Tolerance, 4.5 to 40 V, 0 to 70 degC, 16-pin SOIC (DW), Green (RoHS & no Sb/Br); PartNumber: UC3832DW; Manufacturer: Texas Instruments; Fixed Output Options(V): 2; Iq(Typ)(mA): 3.3; SubFamily: LDO Controller; Vin(Max)(V): 40; Vin(Min)(V): 4.5; DatasheetVersion: SLUS387A; PackageVersion: revG, Jan-2011; PackageReference: DW16; PackageDescription: 16-Pin Small Outline Integrated Circuit, 10.3 x 7.5 mm, Pitch 1.27 mm Pitch; Supplier 1: Digi-Key; Supplier Part Number 1: 296-34737-5-ND; Supplier 2: Newark; Supplier Part Number 2: 77C3269; Supplier 3: Mouser; Supplier Part Number 3: 595-UC3832DW; Tolerance(%): 2; Mounting Technology: Surface Mount; Code_JEDEC: MS-013-AA; ComponentLink1Description: Datasheet; ComponentLink1URL: http://www.ti.com/general/docs/lit/getliterature.tsp?genericPartNumber=UC3832&fileType=pdf
footprint DW16_N (SOIC, 16-Leads, Body 10.3x7.5mm, Pitch 1.27mm, IPC Medium Density)
footprint DW16_L (SOIC, 16-Leads, Body 10.3x7.5mm, Pitch 1.27mm, IPC High Density)
footprint DW16_M (SOIC, 16-Leads, Body 10.3x7.5mm, Pitch 1.27mm, IPC Low Density)
pins: 1 +VIN (power), 2 COMP/SHUTDOWN, 3 E/A(+) (in), 4 +2V REF (out), 5 GND (power), 6 LOGIC DISABLE (in), 7 LIMIT (in), 8 SOURCE, 9 E/A(-) (in), 10 SINK, 11 NC, 12 VADJ (in), 13 NC, 14 TIMER RC, 15 CURRENT SENSE(-) (in), 16 CURRENT SENSE(+) (in)

## UC3832DWG4
designator U?
Precision Low Dropout Linear Controller, 2 % Tolerance, 4.5 to 40 V, 0 to 70 degC, 16-pin SOIC (DW), Green (RoHS & no Sb/Br); PartNumber: UC3832DWG4; Manufacturer: Texas Instruments; Fixed Output Options(V): 2; Iq(Typ)(mA): 3.3; SubFamily: LDO Controller; Vin(Max)(V): 40; Vin(Min)(V): 4.5; DatasheetVersion: SLUS387A; PackageVersion: revG, Jan-2011; PackageReference: DW16; PackageDescription: 16-Pin Small Outline Integrated Circuit, 10.3 x 7.5 mm, Pitch 1.27 mm Pitch; Supplier 1: Digi-Key; Supplier Part Number 1: UC3832DWG4-ND; Supplier 2: Newark; Supplier Part Number 2: 73K9708; Supplier 3: Mouser; Supplier Part Number 3: 595-UC3832DWG4; Tolerance(%): 2; Mounting Technology: Surface Mount; Code_JEDEC: MS-013-AA; ComponentLink1Description: Datasheet; ComponentLink1URL: http://www.ti.com/general/docs/lit/getliterature.tsp?genericPartNumber=UC3832&fileType=pdf
footprint DW16_N (SOIC, 16-Leads, Body 10.3x7.5mm, Pitch 1.27mm, IPC Medium Density)
footprint DW16_L (SOIC, 16-Leads, Body 10.3x7.5mm, Pitch 1.27mm, IPC High Density)
footprint DW16_M (SOIC, 16-Leads, Body 10.3x7.5mm, Pitch 1.27mm, IPC Low Density)
pins: 1 +VIN (power), 2 COMP/SHUTDOWN, 3 E/A(+) (in), 4 +2V REF (out), 5 GND (power), 6 LOGIC DISABLE (in), 7 LIMIT (in), 8 SOURCE, 9 E/A(-) (in), 10 SINK, 11 NC, 12 VADJ (in), 13 NC, 14 TIMER RC, 15 CURRENT SENSE(-) (in), 16 CURRENT SENSE(+) (in)

## UC3832DWTR
designator U?
Precision Low Dropout Linear Controller, 2 % Tolerance, 4.5 to 40 V, 0 to 70 degC, 16-pin SOIC (DW), Green (RoHS & no Sb/Br); PartNumber: UC3832DWTR; Manufacturer: Texas Instruments; Fixed Output Options(V): 2; Iq(Typ)(mA): 3.3; SubFamily: LDO Controller; Vin(Max)(V): 40; Vin(Min)(V): 4.5; DatasheetVersion: SLUS387A; PackageVersion: revG, Jan-2011; PackageReference: DW16; PackageDescription: 16-Pin Small Outline Integrated Circuit, 10.3 x 7.5 mm, Pitch 1.27 mm Pitch; Supplier 1: Digi-Key; Supplier Part Number 1: UC3832DWTR-ND; Supplier 2: Newark; Supplier Part Number 2: 77C3270; Supplier 3: Mouser; Supplier Part Number 3: 595-UC3832DWTR; Tolerance(%): 2; Mounting Technology: Surface Mount; Code_JEDEC: MS-013-AA; ComponentLink1Description: Datasheet; ComponentLink1URL: http://www.ti.com/general/docs/lit/getliterature.tsp?genericPartNumber=UC3832&fileType=pdf
footprint DW16_N (SOIC, 16-Leads, Body 10.3x7.5mm, Pitch 1.27mm, IPC Medium Density)
footprint DW16_L (SOIC, 16-Leads, Body 10.3x7.5mm, Pitch 1.27mm, IPC High Density)
footprint DW16_M (SOIC, 16-Leads, Body 10.3x7.5mm, Pitch 1.27mm, IPC Low Density)
pins: 1 +VIN (power), 2 COMP/SHUTDOWN, 3 E/A(+) (in), 4 +2V REF (out), 5 GND (power), 6 LOGIC DISABLE (in), 7 LIMIT (in), 8 SOURCE, 9 E/A(-) (in), 10 SINK, 11 NC, 12 VADJ (in), 13 NC, 14 TIMER RC, 15 CURRENT SENSE(-) (in), 16 CURRENT SENSE(+) (in)

## UC3832DWTRG4
designator U?
Precision Low Dropout Linear Controller, 2 % Tolerance, 4.5 to 40 V, 0 to 70 degC, 16-pin SOIC (DW), Green (RoHS & no Sb/Br); PartNumber: UC3832DWTRG4; Manufacturer: Texas Instruments; Fixed Output Options(V): 2; Iq(Typ)(mA): 3.3; SubFamily: LDO Controller; Vin(Max)(V): 40; Vin(Min)(V): 4.5; DatasheetVersion: SLUS387A; PackageVersion: revG, Jan-2011; PackageReference: DW16; PackageDescription: 16-Pin Small Outline Integrated Circuit, 10.3 x 7.5 mm, Pitch 1.27 mm Pitch; Supplier 1: Digi-Key; Supplier Part Number 1: UC3832DWTRG4-ND; Supplier 2: Mouser; Supplier Part Number 2: 595-UC3832DWTRG4; Tolerance(%): 2; Mounting Technology: Surface Mount; Code_JEDEC: MS-013-AA; ComponentLink1Description: Datasheet; ComponentLink1URL: http://www.ti.com/general/docs/lit/getliterature.tsp?genericPartNumber=UC3832&fileType=pdf
footprint DW16_N (SOIC, 16-Leads, Body 10.3x7.5mm, Pitch 1.27mm, IPC Medium Density)
footprint DW16_L (SOIC, 16-Leads, Body 10.3x7.5mm, Pitch 1.27mm, IPC High Density)
footprint DW16_M (SOIC, 16-Leads, Body 10.3x7.5mm, Pitch 1.27mm, IPC Low Density)
pins: 1 +VIN (power), 2 COMP/SHUTDOWN, 3 E/A(+) (in), 4 +2V REF (out), 5 GND (power), 6 LOGIC DISABLE (in), 7 LIMIT (in), 8 SOURCE, 9 E/A(-) (in), 10 SINK, 11 NC, 12 VADJ (in), 13 NC, 14 TIMER RC, 15 CURRENT SENSE(-) (in), 16 CURRENT SENSE(+) (in)

## UC3832N
designator U?
Precision Low Dropout Linear Controller, 2 % Tolerance, 4.5 to 40 V, 0 to 70 degC, 14-pin PDIP (N), Green (RoHS & no Sb/Br); PartNumber: UC3832N; Manufacturer: Texas Instruments; Fixed Output Options(V): 2; Iq(Typ)(mA): 3.3; SubFamily: LDO Controller; Vin(Max)(V): 40; Vin(Min)(V): 4.5; DatasheetVersion: SLUS387A; PackageVersion: revE, Dec-2002; PackageReference: N14; PackageDescription: 14-Pin Plastic Dual-In-Line Package, Row Spacing 7.62 mm, Pitch 2.54 mm; Supplier 1: Digi-Key; Supplier Part Number 1: 296-11273-5-ND; Supplier 2: Newark; Supplier Part Number 2: 77C3271; Supplier 3: Mouser; Supplier Part Number 3: 595-UC3832N; Tolerance(%): 2; Mounting Technology: Through Hole; Code_JEDEC: MS-001; ComponentLink1Description: Datasheet; ComponentLink1URL: http://www.ti.com/general/docs/lit/getliterature.tsp?genericPartNumber=UC3832&fileType=pdf
footprint N14 (DIP, 14-Leads, Row Spacing 7.62mm, Pitch 2.54mm, Body 19.3x6.4mm)
pins: 1 +VIN (power), 2 COMP/SHUTDOWN, 3 E/A(+) (in), 4 +2V REF (out), 5 GND (power), 6 LOGIC DISABLE (in), 7 LIMIT (in), 8 SOURCE, 9 E/A(-) (in), 10 SINK, 11 VADJ (in), 12 TIMER RC, 13 CURRENT SENSE(-) (in), 14 CURRENT SENSE(+) (in)

## UC3832NG4
designator U?
Precision Low Dropout Linear Controller, 2 % Tolerance, 4.5 to 40 V, 0 to 70 degC, 14-pin PDIP (N), Green (RoHS & no Sb/Br); PartNumber: UC3832NG4; Manufacturer: Texas Instruments; Fixed Output Options(V): 2; Iq(Typ)(mA): 3.3; SubFamily: LDO Controller; Vin(Max)(V): 40; Vin(Min)(V): 4.5; DatasheetVersion: SLUS387A; PackageVersion: revE, Dec-2002; PackageReference: N14; PackageDescription: 14-Pin Plastic Dual-In-Line Package, Row Spacing 7.62 mm, Pitch 2.54 mm; Supplier 1: Digi-Key; Supplier Part Number 1: UC3832NG4-ND; Supplier 2: Newark; Supplier Part Number 2: 70K6013; Supplier 3: Mouser; Supplier Part Number 3: 595-UC3832NG4; Tolerance(%): 2; Mounting Technology: Through Hole; Code_JEDEC: MS-001; ComponentLink1Description: Datasheet; ComponentLink1URL: http://www.ti.com/general/docs/lit/getliterature.tsp?genericPartNumber=UC3832&fileType=pdf
footprint N14 (DIP, 14-Leads, Row Spacing 7.62mm, Pitch 2.54mm, Body 19.3x6.4mm)
pins: 1 +VIN (power), 2 COMP/SHUTDOWN, 3 E/A(+) (in), 4 +2V REF (out), 5 GND (power), 6 LOGIC DISABLE (in), 7 LIMIT (in), 8 SOURCE, 9 E/A(-) (in), 10 SINK, 11 VADJ (in), 12 TIMER RC, 13 CURRENT SENSE(-) (in), 14 CURRENT SENSE(+) (in)

## UC3833DW
designator U?
Precision Low Dropout Linear Controller, 2 % Tolerance, 4.5 to 40 V, 0 to 70 degC, 16-pin SOIC (DW), Green (RoHS & no Sb/Br); PartNumber: UC3833DW; Manufacturer: Texas Instruments; Fixed Output Options(V): 2; Iq(Typ)(mA): 3.3; SubFamily: LDO Controller; Vin(Max)(V): 40; Vin(Min)(V): 4.5; DatasheetVersion: SLUS387A; PackageVersion: revG, Jan-2011; PackageReference: DW16; PackageDescription: 16-Pin Small Outline Integrated Circuit, 10.3 x 7.5 mm, Pitch 1.27 mm Pitch; Supplier 1: Digi-Key; Supplier Part Number 1: UC3833DW-ND; Supplier 2: Newark; Supplier Part Number 2: 77C3272; Supplier 3: Mouser; Supplier Part Number 3: 595-UC3833DW; Tolerance(%): 2; Mounting Technology: Surface Mount; Code_JEDEC: MS-013-AA; ComponentLink1Description: Datasheet; ComponentLink1URL: http://www.ti.com/general/docs/lit/getliterature.tsp?genericPartNumber=UC3833&fileType=pdf
footprint DW16_N (SOIC, 16-Leads, Body 10.3x7.5mm, Pitch 1.27mm, IPC Medium Density)
footprint DW16_L (SOIC, 16-Leads, Body 10.3x7.5mm, Pitch 1.27mm, IPC High Density)
footprint DW16_M (SOIC, 16-Leads, Body 10.3x7.5mm, Pitch 1.27mm, IPC Low Density)
pins: 1 +VIN/C/S(+) (power), 2 COMP/SHUTDOWN, 3 NC, 4 NC, 5 GND (power), 6 NC, 7 NC, 8 SOURCE, 9 E/A(-) (in), 10 SINK, 11 NC, 12 NC, 13 NC, 14 TIMER RC, 15 CURRENT SENSE(-) (in), 16 NC

## UC3833DWG4
designator U?
Precision Low Dropout Linear Controller, 2 % Tolerance, 4.5 to 40 V, 0 to 70 degC, 16-pin SOIC (DW), Green (RoHS & no Sb/Br); PartNumber: UC3833DWG4; Manufacturer: Texas Instruments; Fixed Output Options(V): 2; Iq(Typ)(mA): 3.3; SubFamily: LDO Controller; Vin(Max)(V): 40; Vin(Min)(V): 4.5; DatasheetVersion: SLUS387A; PackageVersion: revG, Jan-2011; PackageReference: DW16; PackageDescription: 16-Pin Small Outline Integrated Circuit, 10.3 x 7.5 mm, Pitch 1.27 mm Pitch; Supplier 1: Digi-Key; Supplier Part Number 1: UC3833DWG4-ND; Supplier 2: Newark; Supplier Part Number 2: 70K6014; Supplier 3: Mouser; Supplier Part Number 3: 595-UC3833DWG4; Tolerance(%): 2; Mounting Technology: Surface Mount; Code_JEDEC: MS-013-AA; ComponentLink1Description: Datasheet; ComponentLink1URL: http://www.ti.com/general/docs/lit/getliterature.tsp?genericPartNumber=UC3833&fileType=pdf
footprint DW16_N (SOIC, 16-Leads, Body 10.3x7.5mm, Pitch 1.27mm, IPC Medium Density)
footprint DW16_L (SOIC, 16-Leads, Body 10.3x7.5mm, Pitch 1.27mm, IPC High Density)
footprint DW16_M (SOIC, 16-Leads, Body 10.3x7.5mm, Pitch 1.27mm, IPC Low Density)
pins: 1 +VIN/C/S(+) (power), 2 COMP/SHUTDOWN, 3 NC, 4 NC, 5 GND (power), 6 NC, 7 NC, 8 SOURCE, 9 E/A(-) (in), 10 SINK, 11 NC, 12 NC, 13 NC, 14 TIMER RC, 15 CURRENT SENSE(-) (in), 16 NC

## UC3833DWTR
designator U?
Precision Low Dropout Linear Controller, 2 % Tolerance, 4.5 to 40 V, 0 to 70 degC, 16-pin SOIC (DW), Green (RoHS & no Sb/Br); PartNumber: UC3833DWTR; Manufacturer: Texas Instruments; Fixed Output Options(V): 2; Iq(Typ)(mA): 3.3; SubFamily: LDO Controller; Vin(Max)(V): 40; Vin(Min)(V): 4.5; DatasheetVersion: SLUS387A; PackageVersion: revG, Jan-2011; PackageReference: DW16; PackageDescription: 16-Pin Small Outline Integrated Circuit, 10.3 x 7.5 mm, Pitch 1.27 mm Pitch; Supplier 1: Digi-Key; Supplier Part Number 1: 296-13767-2-ND; Supplier 2: Digi-Key; Supplier Part Number 2: 296-13767-1-ND; Supplier 3: Digi-Key; Supplier Part Number 3: 296-13767-6-ND; Supplier 4: Newark; Supplier Part Number 4: 77C3273; Supplier 5: Mouser; Supplier Part Number 5: 595-UC3833DWTR; Tolerance(%): 2; Mounting Technology: Surface Mount; Code_JEDEC: MS-013-AA; ComponentLink1Description: Datasheet; ComponentLink1URL: http://www.ti.com/general/docs/lit/getliterature.tsp?genericPartNumber=UC3833&fileType=pdf
footprint DW16_N (SOIC, 16-Leads, Body 10.3x7.5mm, Pitch 1.27mm, IPC Medium Density)
footprint DW16_L (SOIC, 16-Leads, Body 10.3x7.5mm, Pitch 1.27mm, IPC High Density)
footprint DW16_M (SOIC, 16-Leads, Body 10.3x7.5mm, Pitch 1.27mm, IPC Low Density)
pins: 1 +VIN/C/S(+) (power), 2 COMP/SHUTDOWN, 3 NC, 4 NC, 5 GND (power), 6 NC, 7 NC, 8 SOURCE, 9 E/A(-) (in), 10 SINK, 11 NC, 12 NC, 13 NC, 14 TIMER RC, 15 CURRENT SENSE(-) (in), 16 NC

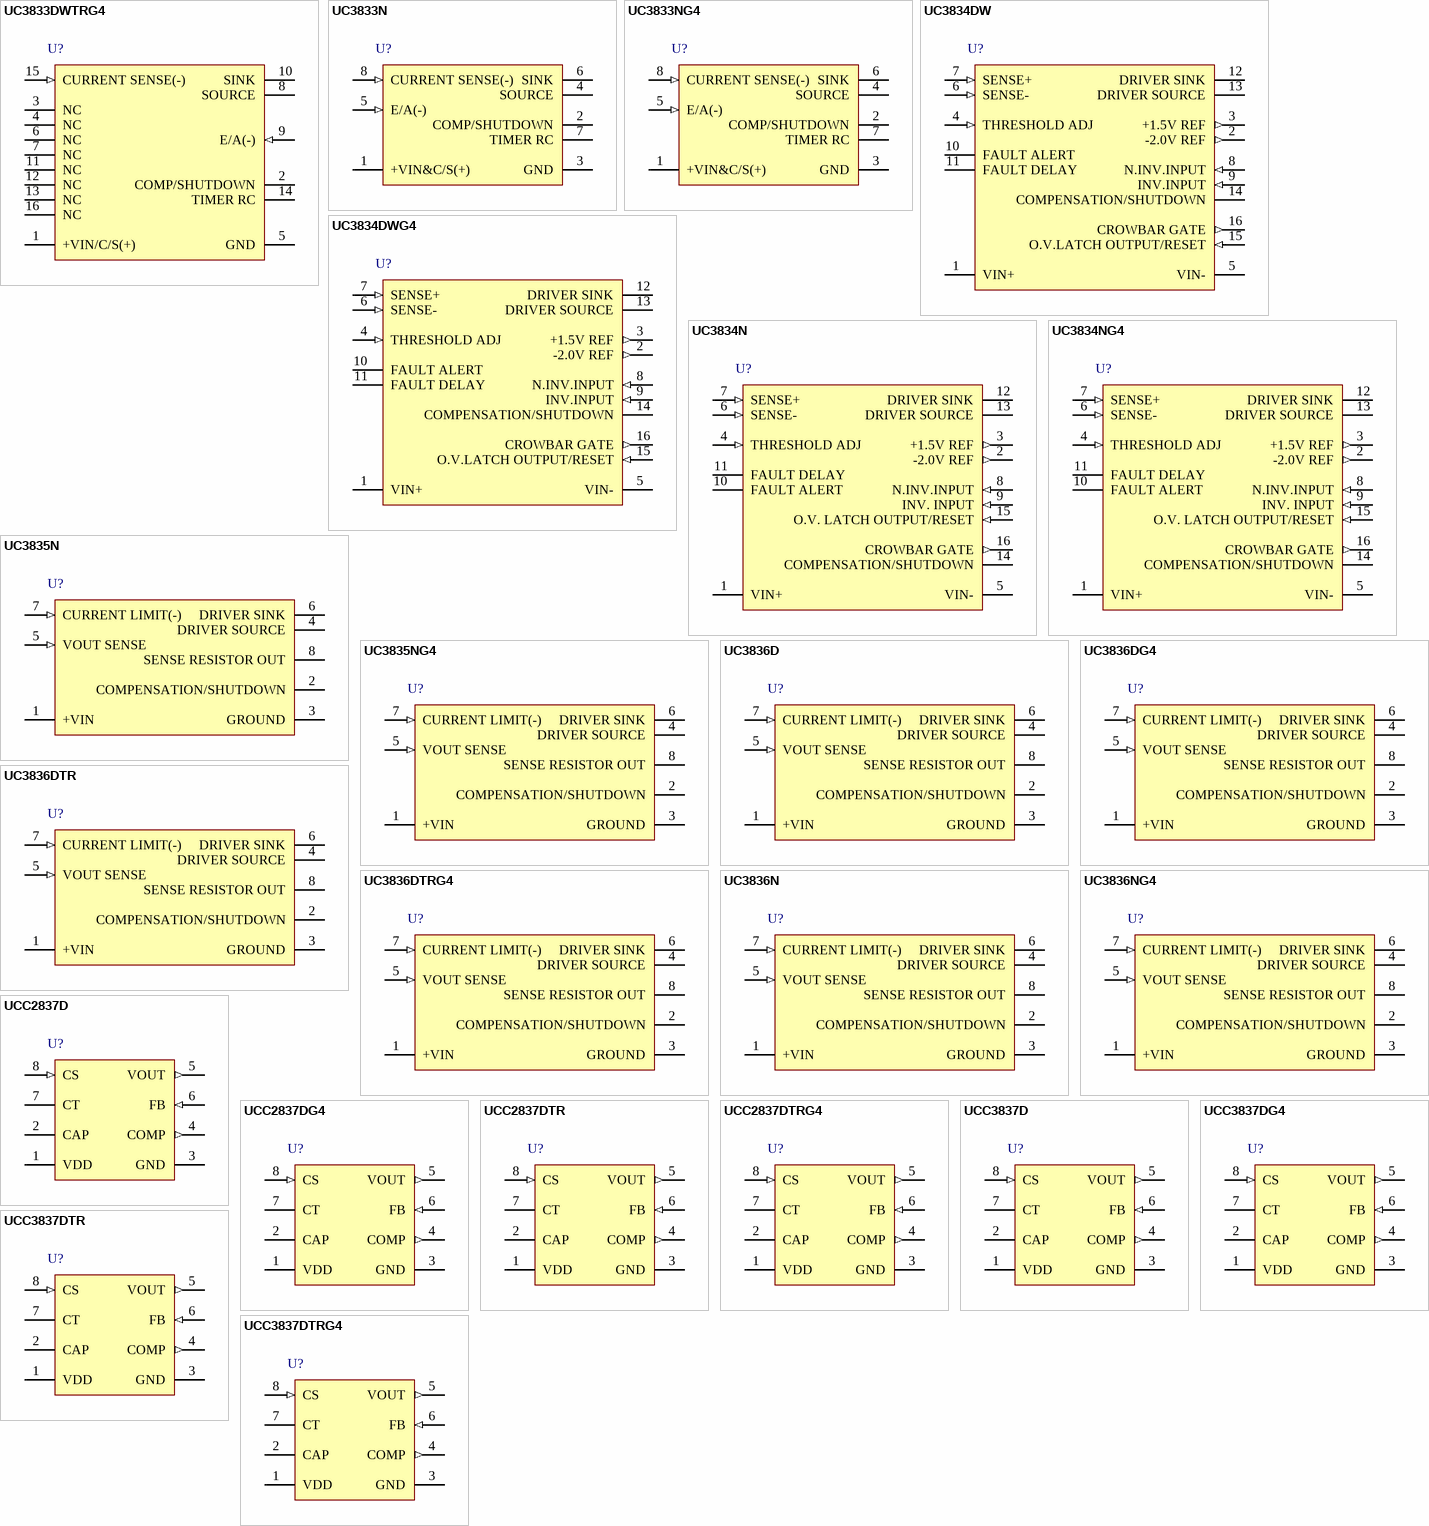
[diagram p3: symbols UC3833DWTRG4 to UCC3837DTRG4]

## UC3833DWTRG4
designator U?
Precision Low Dropout Linear Controller, 2 % Tolerance, 4.5 to 40 V, 0 to 70 degC, 16-pin SOIC (DW), Green (RoHS & no Sb/Br); PartNumber: UC3833DWTRG4; Manufacturer: Texas Instruments; Fixed Output Options(V): 2; Iq(Typ)(mA): 3.3; SubFamily: LDO Controller; Vin(Max)(V): 40; Vin(Min)(V): 4.5; DatasheetVersion: SLUS387A; PackageVersion: revG, Jan-2011; PackageReference: DW16; PackageDescription: 16-Pin Small Outline Integrated Circuit, 10.3 x 7.5 mm, Pitch 1.27 mm Pitch; Supplier 1: Digi-Key; Supplier Part Number 1: UC3833DWTRG4-ND; Supplier 2: Mouser; Supplier Part Number 2: 595-UC3833DWTRG4; Tolerance(%): 2; Mounting Technology: Surface Mount; Code_JEDEC: MS-013-AA; ComponentLink1Description: Datasheet; ComponentLink1URL: http://www.ti.com/general/docs/lit/getliterature.tsp?genericPartNumber=UC3833&fileType=pdf
footprint DW16_N (SOIC, 16-Leads, Body 10.3x7.5mm, Pitch 1.27mm, IPC Medium Density)
footprint DW16_L (SOIC, 16-Leads, Body 10.3x7.5mm, Pitch 1.27mm, IPC High Density)
footprint DW16_M (SOIC, 16-Leads, Body 10.3x7.5mm, Pitch 1.27mm, IPC Low Density)
pins: 1 +VIN/C/S(+) (power), 2 COMP/SHUTDOWN, 3 NC, 4 NC, 5 GND (power), 6 NC, 7 NC, 8 SOURCE, 9 E/A(-) (in), 10 SINK, 11 NC, 12 NC, 13 NC, 14 TIMER RC, 15 CURRENT SENSE(-) (in), 16 NC

## UC3833N
designator U?
Precision Low Dropout Linear Controller, 2 % Tolerance, 4.5 to 40 V, 0 to 70 degC, 8-pin PDIP (P), Green (RoHS & no Sb/Br); PartNumber: UC3833N; Manufacturer: Texas Instruments; Fixed Output Options(V): 2; Iq(Typ)(mA): 3.3; SubFamily: LDO Controller; Vin(Max)(V): 40; Vin(Min)(V): 4.5; DatasheetVersion: SLUS387A; PackageVersion: revE, Apr-2010; PackageReference: P8; PackageDescription: 8-Pin Plastic Dual-In-Line Package, Row Spacing 7.62 mm, Pitch 2.54 mm; Supplier 1: Digi-Key; Supplier Part Number 1: 296-11274-5-ND; Supplier 2: Newark; Supplier Part Number 2: 77C3274; Supplier 3: Mouser; Supplier Part Number 3: 595-UC3833N; Tolerance(%): 2; Mounting Technology: Through Hole; Code_JEDEC: MS-001-BA; ComponentLink1Description: Datasheet; ComponentLink1URL: http://www.ti.com/general/docs/lit/getliterature.tsp?genericPartNumber=UC3833&fileType=pdf
footprint P8 (DIP, 8-Leads, Row Spacing 7.62mm, Pitch 2.54mm, Body 9.6x6.4mm)
pins: 1 +VIN&C/S(+) (power), 2 COMP/SHUTDOWN, 3 GND (power), 4 SOURCE, 5 E/A(-) (in), 6 SINK, 7 TIMER RC, 8 CURRENT SENSE(-) (in)

## UC3833NG4
designator U?
Precision Low Dropout Linear Controller, 2 % Tolerance, 4.5 to 40 V, 0 to 70 degC, 8-pin PDIP (P), Green (RoHS & no Sb/Br); PartNumber: UC3833NG4; Manufacturer: Texas Instruments; Fixed Output Options(V): 2; Iq(Typ)(mA): 3.3; SubFamily: LDO Controller; Vin(Max)(V): 40; Vin(Min)(V): 4.5; DatasheetVersion: SLUS387A; PackageVersion: revE, Apr-2010; PackageReference: P8; PackageDescription: 8-Pin Plastic Dual-In-Line Package, Row Spacing 7.62 mm, Pitch 2.54 mm; Supplier 1: Digi-Key; Supplier Part Number 1: UC3833NG4-ND; Supplier 2: Newark; Supplier Part Number 2: 58K7127; Supplier 3: Mouser; Supplier Part Number 3: 595-UC3833NG4; Tolerance(%): 2; Mounting Technology: Through Hole; Code_JEDEC: MS-001-BA; ComponentLink1Description: Datasheet; ComponentLink1URL: http://www.ti.com/general/docs/lit/getliterature.tsp?genericPartNumber=UC3833&fileType=pdf
footprint P8 (DIP, 8-Leads, Row Spacing 7.62mm, Pitch 2.54mm, Body 9.6x6.4mm)
pins: 1 +VIN&C/S(+) (power), 2 COMP/SHUTDOWN, 3 GND (power), 4 SOURCE, 5 E/A(-) (in), 6 SINK, 7 TIMER RC, 8 CURRENT SENSE(-) (in)

## UC3834DW
designator U?
High Efficiency Linear Regulator, 4 % Tolerance, 5 to 35 V, 0 to 70 degC, 16-pin SOIC (DW), Green (RoHS & no Sb/Br); PartNumber: UC3834DW; Manufacturer: Texas Instruments; Fixed Output Options(V): 1.5; Iq(Typ)(mA): 5.5; SubFamily: LDO Controller; Tolerance(%): 4; Vin(Max)(V): 35; Vin(Min)(V): 5; PackageVersion: revG, Jan-2011; PackageReference: DW16; PackageDescription: 16-Pin Small Outline Integrated Circuit, 10.3 x 7.5 mm, Pitch 1.27 mm Pitch; Supplier 1: Digi-Key; Supplier Part Number 1: 296-2808-5-ND; Supplier 2: Newark; Supplier Part Number 2: 77C3275; Supplier 3: Mouser; Supplier Part Number 3: 595-UC3834DW; Mounting Technology: Surface Mount; Code_JEDEC: MS-013-AA; ComponentLink1Description: Datasheet; ComponentLink1URL: http://www.ti.com/general/docs/lit/getliterature.tsp?genericPartNumber=UC3834&fileType=pdf
footprint DW16_N (SOIC, 16-Leads, Body 10.3x7.5mm, Pitch 1.27mm, IPC Medium Density)
footprint DW16_L (SOIC, 16-Leads, Body 10.3x7.5mm, Pitch 1.27mm, IPC High Density)
footprint DW16_M (SOIC, 16-Leads, Body 10.3x7.5mm, Pitch 1.27mm, IPC Low Density)
pins: 1 VIN+ (power), 2 -2.0V REF (out), 3 +1.5V REF (out), 4 THRESHOLD ADJ (in), 5 VIN- (power), 6 SENSE- (in), 7 SENSE+ (in), 8 N.INV.INPUT (in), 9 INV.INPUT (in), 10 FAULT ALERT (oc), 11 FAULT DELAY, 12 DRIVER SINK, 13 DRIVER SOURCE, 14 COMPENSATION/SHUTDOWN, 15 O.V.LATCH OUTPUT/RESET (in), 16 CROWBAR GATE (out)

## UC3834DWG4
designator U?
High Efficiency Linear Regulator, 4 % Tolerance, 5 to 35 V, 0 to 70 degC, 16-pin SOIC (DW), Green (RoHS & no Sb/Br); PartNumber: UC3834DWG4; Manufacturer: Texas Instruments; Fixed Output Options(V): 1.5; Iq(Typ)(mA): 5.5; SubFamily: LDO Controller; Tolerance(%): 4; Vin(Max)(V): 35; Vin(Min)(V): 5; PackageVersion: revG, Jan-2011; PackageReference: DW16; PackageDescription: 16-Pin Small Outline Integrated Circuit, 10.3 x 7.5 mm, Pitch 1.27 mm Pitch; Supplier 1: Digi-Key; Supplier Part Number 1: UC3834DWG4-ND; Supplier 2: Mouser; Supplier Part Number 2: 595-UC3834DWG4; Mounting Technology: Surface Mount; Code_JEDEC: MS-013-AA; ComponentLink1Description: Datasheet; ComponentLink1URL: http://www.ti.com/general/docs/lit/getliterature.tsp?genericPartNumber=UC3834&fileType=pdf
footprint DW16_N (SOIC, 16-Leads, Body 10.3x7.5mm, Pitch 1.27mm, IPC Medium Density)
footprint DW16_L (SOIC, 16-Leads, Body 10.3x7.5mm, Pitch 1.27mm, IPC High Density)
footprint DW16_M (SOIC, 16-Leads, Body 10.3x7.5mm, Pitch 1.27mm, IPC Low Density)
pins: 1 VIN+ (power), 2 -2.0V REF (out), 3 +1.5V REF (out), 4 THRESHOLD ADJ (in), 5 VIN- (power), 6 SENSE- (in), 7 SENSE+ (in), 8 N.INV.INPUT (in), 9 INV.INPUT (in), 10 FAULT ALERT (oc), 11 FAULT DELAY, 12 DRIVER SINK, 13 DRIVER SOURCE, 14 COMPENSATION/SHUTDOWN, 15 O.V.LATCH OUTPUT/RESET (in), 16 CROWBAR GATE (out)

## UC3834N
designator U?
High Efficiency Linear Regulator, 4 % Tolerance, 5 to 35 V, 0 to 70 degC, 16-pin PDIP (N), Green (RoHS & no Sb/Br); PartNumber: UC3834N; Manufacturer: Texas Instruments; Fixed Output Options(V): 1.5; Iq(Typ)(mA): 5.5; SubFamily: LDO Controller; Tolerance(%): 4; Vin(Max)(V): 35; Vin(Min)(V): 5; PackageVersion: revE, Dec-2002; PackageReference: N16; PackageDescription: 16-Pin Plastic Dual-In-Line Package, Row Spacing 7.62 mm, Pitch 2.54 mm; Supplier 1: Digi-Key; Supplier Part Number 1: 296-11275-5-ND; Supplier 2: Newark; Supplier Part Number 2: 72K7334; Supplier 3: Mouser; Supplier Part Number 3: 595-UC3834N; Mounting Technology: Through Hole; Code_JEDEC: MS-001*; ComponentLink1Description: Datasheet; ComponentLink1URL: http://www.ti.com/general/docs/lit/getliterature.tsp?genericPartNumber=UC3834&fileType=pdf
footprint N16 (DIP, 16-Leads, Row Spacing 7.62mm, Pitch 2.54mm, Body 19.3x6.4mm)
pins: 1 VIN+ (power), 2 -2.0V REF (out), 3 +1.5V REF (out), 4 THRESHOLD ADJ (in), 5 VIN- (power), 6 SENSE- (in), 7 SENSE+ (in), 8 N.INV.INPUT (in), 9 INV. INPUT (in), 10 FAULT ALERT (oc), 11 FAULT DELAY, 12 DRIVER SINK, 13 DRIVER SOURCE, 14 COMPENSATION/SHUTDOWN, 15 O.V. LATCH OUTPUT/RESET (in), 16 CROWBAR GATE (out)

## UC3834NG4
designator U?
High Efficiency Linear Regulator, 4 % Tolerance, 5 to 35 V, 0 to 70 degC, 16-pin PDIP (N), Green (RoHS & no Sb/Br); PartNumber: UC3834NG4; Manufacturer: Texas Instruments; Fixed Output Options(V): 1.5; Iq(Typ)(mA): 5.5; SubFamily: LDO Controller; Tolerance(%): 4; Vin(Max)(V): 35; Vin(Min)(V): 5; PackageVersion: revE, Dec-2002; PackageReference: N16; PackageDescription: 16-Pin Plastic Dual-In-Line Package, Row Spacing 7.62 mm, Pitch 2.54 mm; Supplier 1: Digi-Key; Supplier Part Number 1: UC3834NG4-ND; Supplier 2: Newark; Supplier Part Number 2: 58K7128; Supplier 3: Mouser; Supplier Part Number 3: 595-UC3834NG4; Mounting Technology: Through Hole; Code_JEDEC: MS-001*; ComponentLink1Description: Datasheet; ComponentLink1URL: http://www.ti.com/general/docs/lit/getliterature.tsp?genericPartNumber=UC3834&fileType=pdf
footprint N16 (DIP, 16-Leads, Row Spacing 7.62mm, Pitch 2.54mm, Body 19.3x6.4mm)
pins: 1 VIN+ (power), 2 -2.0V REF (out), 3 +1.5V REF (out), 4 THRESHOLD ADJ (in), 5 VIN- (power), 6 SENSE- (in), 7 SENSE+ (in), 8 N.INV.INPUT (in), 9 INV. INPUT (in), 10 FAULT ALERT (oc), 11 FAULT DELAY, 12 DRIVER SINK, 13 DRIVER SOURCE, 14 COMPENSATION/SHUTDOWN, 15 O.V. LATCH OUTPUT/RESET (in), 16 CROWBAR GATE (out)

## UC3835N
designator U?
High Efficiency Regulator Controller, 2 % Tolerance, 6 to 40 V, 0 to 70 degC, 8-pin PDIP (P), Green (RoHS & no Sb/Br); PartNumber: UC3835N; Manufacturer: Texas Instruments; Fixed Output Options(V): 5; Iq(Typ)(mA): 3.7; SubFamily: LDO Controller; Tolerance(%): 2; Vin(Max)(V): 40; Vin(Min)(V): 6; DatasheetVersion: SLUS383; PackageVersion: revE, Apr-2010; PackageReference: P8; PackageDescription: 8-Pin Plastic Dual-In-Line Package, Row Spacing 7.62 mm, Pitch 2.54 mm; Supplier 1: Digi-Key; Supplier Part Number 1: 296-2523-5-ND; Supplier 2: Newark; Supplier Part Number 2: 77C3280; Supplier 3: Mouser; Supplier Part Number 3: 595-UC3835N; Vout Adj(Max)(V): 5; Vout Adj(Min)(V): 5; Mounting Technology: Through Hole; Code_JEDEC: MS-001-BA; ComponentLink1Description: Datasheet; ComponentLink1URL: http://www.ti.com/general/docs/lit/getliterature.tsp?genericPartNumber=UC3835&fileType=pdf
footprint P8 (DIP, 8-Leads, Row Spacing 7.62mm, Pitch 2.54mm, Body 9.6x6.4mm)
pins: 1 +VIN (power), 2 COMPENSATION/SHUTDOWN, 3 GROUND (power), 4 DRIVER SOURCE, 5 VOUT SENSE (in), 6 DRIVER SINK, 7 CURRENT LIMIT(-) (in), 8 SENSE RESISTOR OUT

## UC3835NG4
designator U?
High Efficiency Regulator Controller, 2 % Tolerance, 6 to 40 V, 0 to 70 degC, 8-pin PDIP (P), Green (RoHS & no Sb/Br); PartNumber: UC3835NG4; Manufacturer: Texas Instruments; Fixed Output Options(V): 5; Iq(Typ)(mA): 3.7; SubFamily: LDO Controller; Tolerance(%): 2; Vin(Max)(V): 40; Vin(Min)(V): 6; DatasheetVersion: SLUS383; PackageVersion: revE, Apr-2010; PackageReference: P8; PackageDescription: 8-Pin Plastic Dual-In-Line Package, Row Spacing 7.62 mm, Pitch 2.54 mm; Supplier 1: Digi-Key; Supplier Part Number 1: UC3835NG4-ND; Supplier 2: Newark; Supplier Part Number 2: 85K1826; Supplier 3: Mouser; Supplier Part Number 3: 595-UC3835NG4; Vout Adj(Max)(V): 5; Vout Adj(Min)(V): 5; Mounting Technology: Through Hole; Code_JEDEC: MS-001-BA; ComponentLink1Description: Datasheet; ComponentLink1URL: http://www.ti.com/general/docs/lit/getliterature.tsp?genericPartNumber=UC3835&fileType=pdf
footprint P8 (DIP, 8-Leads, Row Spacing 7.62mm, Pitch 2.54mm, Body 9.6x6.4mm)
pins: 1 +VIN (power), 2 COMPENSATION/SHUTDOWN, 3 GROUND (power), 4 DRIVER SOURCE, 5 VOUT SENSE (in), 6 DRIVER SINK, 7 CURRENT LIMIT(-) (in), 8 SENSE RESISTOR OUT